# EAGLE library part MCP1640B (library custom)
Synchronous Boost Converter Voltage Regulator 0.8-5.5V In 2-5.5V Out 350mA 500kHz
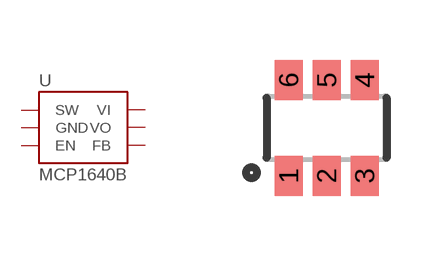
[diagram p67: symbol with the pads of SOT23-6; footprint SOT23-6]

Designator prefix U

## MCP1640B  [SOT23-6]
1  SW
2  GND
3  EN
4  FB
5  VO
6  VI

## Footprint SOT23-6 (pad centres in mm)
smd 0.7 x 1: 1 -0.95,-1.2; 2 0,-1.2; 3 0.95,-1.2; 4 0.95,1.2; 5 0,1.2; 6 -0.95,1.2